# EAGLE library part MLX90129 (library RFID)
MLX90129 13.56MHZ SENSOR TAG / DATALOGGER IC
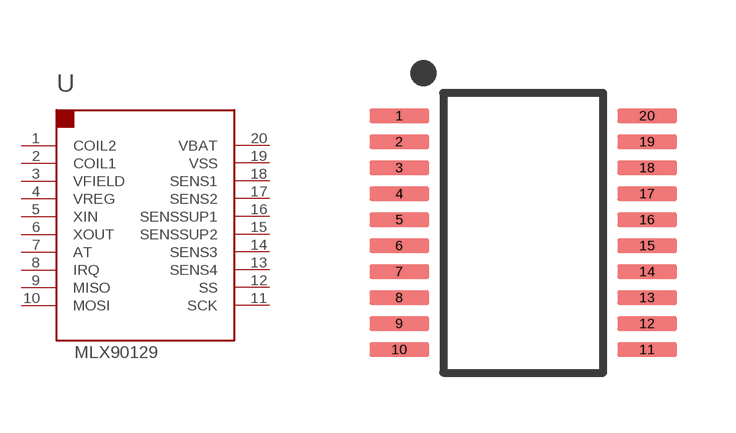
[diagram p3: symbol with the pads of TSSOP20; footprint TSSOP20]

Designator prefix U

## MLX90129 (PARTNO: 01-100353-00)  [TSSOP20]
1  COIL2
2  COIL1
3  VFIELD  out
4  VREG  out
5  XIN  in
6  XOUT  in
7  AT  in
8  IRQ  out
9  MISO
10  MOSI
11  SCK
12  SS
13  SENS4  in
14  SENS3  in
15  SENSSUP2  out
16  SENSSUP1  out
17  SENS2  in
18  SENS1  in
19  VSS  pwr
20  VBAT  pwr

## Footprint TSSOP20 (pad centres in mm)
smd 1.5 x 0.35: 1 -3.1,2.925; 2 -3.1,2.275; 3 -3.1,1.625; 4 -3.1,0.975; 5 -3.1,0.325; 6 -3.1,-0.325; 7 -3.1,-0.975; 8 -3.1,-1.625; 9 -3.1,-2.275; 10 -3.1,-2.925; 11 3.1,-2.925; 12 3.1,-2.275; 13 3.1,-1.625; 14 3.1,-0.975; 15 3.1,-0.325; 16 3.1,0.325; 17 3.1,0.975; 18 3.1,1.625; 19 3.1,2.275; 20 3.1,2.925